# EAGLE library part PIC32MX250F128B-I_ML (library PIC32)
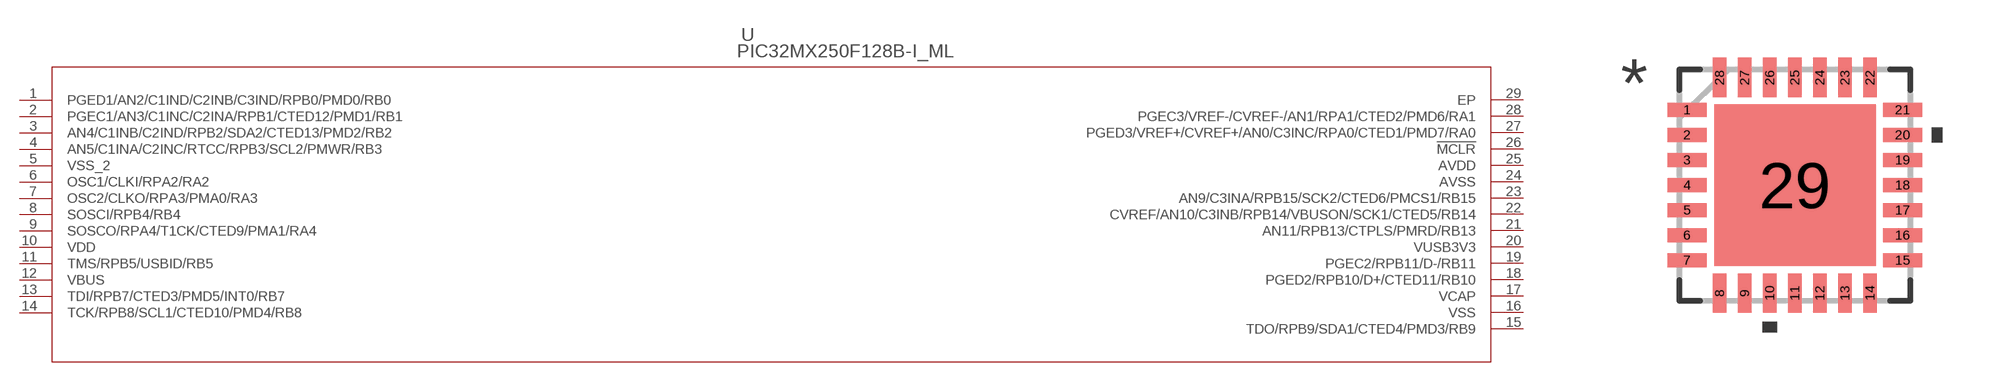
[diagram p0: symbol with the pads of QFN28_6X6MC; footprint QFN28_6X6MC]

Designator prefix U

## PIC32MX250F128B-I_ML  [QFN28_6X6MC]
1  PGED1/AN2/C1IND/C2INB/C3IND/RPB0/PMD0/RB0
2  PGEC1/AN3/C1INC/C2INA/RPB1/CTED12/PMD1/RB1
3  AN4/C1INB/C2IND/RPB2/SDA2/CTED13/PMD2/RB2
4  AN5/C1INA/C2INC/RTCC/RPB3/SCL2/PMWR/RB3
5  VSS_2  pwr
6  OSC1/CLKI/RPA2/RA2
7  OSC2/CLKO/RPA3/PMA0/RA3
8  SOSCI/RPB4/RB4
9  SOSCO/RPA4/T1CK/CTED9/PMA1/RA4
10  VDD  pwr
11  TMS/RPB5/USBID/RB5
12  VBUS  pwr
13  TDI/RPB7/CTED3/PMD5/INT0/RB7
14  TCK/RPB8/SCL1/CTED10/PMD4/RB8
15  TDO/RPB9/SDA1/CTED4/PMD3/RB9
16  VSS  pwr
17  VCAP  pwr
18  PGED2/RPB10/D+/CTED11/RB10
19  PGEC2/RPB11/D-/RB11
20  VUSB3V3  pwr
21  AN11/RPB13/CTPLS/PMRD/RB13
22  CVREF/AN10/C3INB/RPB14/VBUSON/SCK1/CTED5/RB14
23  AN9/C3INA/RPB15/SCK2/CTED6/PMCS1/RB15
24  AVSS  pwr
25  AVDD  pwr
26  !MCLR  in
27  PGED3/VREF+/CVREF+/AN0/C3INC/RPA0/CTED1/PMD7/RA0
28  PGEC3/VREF-/CVREF-/AN1/RPA1/CTED2/PMD6/RA1
29  EP  pas

## Footprint QFN28_6X6MC (pad centres in mm)
smd 1.016 x 0.356: 1 -2.794,1.95; 2 -2.794,1.3; 3 -2.794,0.65; 4 -2.794,0; 5 -2.794,-0.65; 6 -2.794,-1.3; 7 -2.794,-1.95; 15 2.794,-1.95; 16 2.794,-1.3; 17 2.794,-0.65; 18 2.794,0; 19 2.794,0.65; 20 2.794,1.3; 21 2.794,1.95
smd 0.356 x 1.016: 8 -1.95,-2.794; 9 -1.3,-2.794; 10 -0.65,-2.794; 11 0,-2.794; 12 0.65,-2.794; 13 1.3,-2.794; 14 1.95,-2.794; 22 1.95,2.794; 23 1.3,2.794; 24 0.65,2.794; 25 0,2.794; 26 -0.65,2.794; 27 -1.3,2.794; 28 -1.95,2.794
smd 4.191 x 4.191: 29 0,0